# Altium schematic symbol library MUSB-5PIN.SchLib: 1 symbol
Pins are listed as number, name and electrical type; pins without a type are passive.

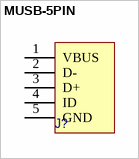
[diagram p0: symbol MUSB-5PIN]

## MUSB-5PIN
designator J?  (value not drawn)
pins: 1 VBUS, 2 D-, 3 D+, 4 ID, 5 GND